# Altium footprint library HC1.PcbLib: 1 footprints
Each footprint in its own frame and in the unit in brackets; x right, y up, seen from the top. Pads: shape width x height; smd on the part's side, far side on the other; paste and mask are expansions set on the pad; w line width, h text height; cw(c..) or ccw(c..) is an arc to the next point about the centre after c.
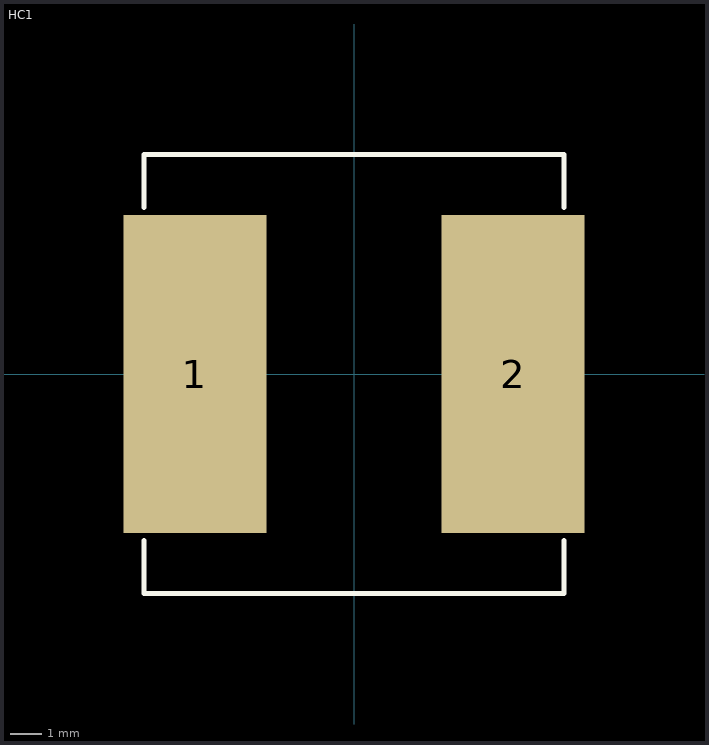
[diagram p0: the footprint, top view; thin cyan lines are the x and y axes]

## HC1 [mm] "Cooper Bussmann HC1 (Top Overlay oversized to fit HC9)"
height 10
pads (2):
  rect 4.5x10 smd paste-50: 1(-5,0) 2(5,0)
Top Overlay:
  lines w0.152: -6.6,-5.23 -6.6,-6.9 6.6,-6.9 6.6,-5.23 ; -6.6,5.23 -6.6,6.9 6.6,6.9 6.6,5.23
Top Paste:
  rectangle: -6.9,-4.7 -3.2,4.7
  rectangle: 3.2,-4.7 6.9,4.7
3D body: height 7.5, standoff 0, extent -6.5,-6.5 6.5,6.5